# Altium footprint library MiscFootprints.PcbLib: 4 footprints
Each footprint in its own frame and in the unit in brackets; x right, y up, seen from the top. Pads: shape width x height; smd on the part's side, far side on the other; paste and mask are expansions set on the pad; w line width, h text height; cw(c..) or ccw(c..) is an arc to the next point about the centre after c.
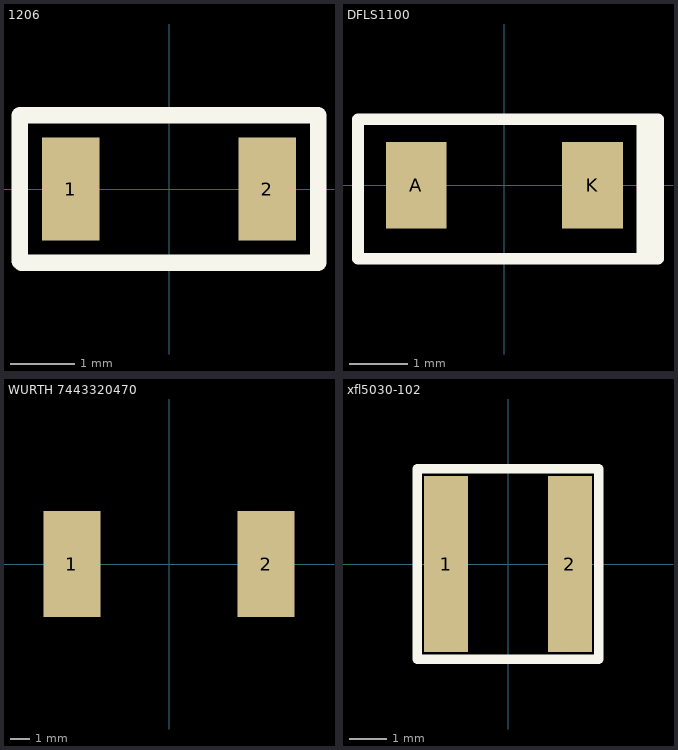
[diagram p0: the footprints below, top view; thin cyan lines are the x and y axes]

## 1206 [mil]
pads (2):
  rect 35x63 smd: 1(-60,0) 2(60,0)
Top Overlay:
  lines w10: -91,45 -91,0 -91,-44 -90,-45 -73,-45 73,-45 90,-45 ; -90,45 -73,45 73,45 90,45 ; 91,-45 91,45

## DFLS1100 [mm]
pads (2):
  rect 1.05x1.5 smd: A(-1.525,0) K(1.525,0)
Top Overlay:
  lines w0.2: -2.53,-1.27 2.657,-1.27 2.657,-0.667 2.657,0.54 2.657,1.143 -2.53,1.143 -2.53,0 -2.53,-1.27
  lines w0.254: 2.413,-1.143 2.413,1.016 ; 2.54,-1.143 2.54,1.016

## WURTH 7443320470 [mm]
pads (2):
  rect 2.9x5.4 smd: 1(-4.95,0) 2(4.95,0)
3D body: height 9.5, standoff 0, extent -6.477,-6.477 6.477,6.477

## xfl5030-102 [mil]
pads (2):
  rect 46x185 smd: 1(-65,0) 2(65,0)
Top Overlay:
  lines w10: -95.5,-100 95.5,-100 95.5,100 -95.5,100 -95.5,0 -95.5,-100
3D body: height 122, standoff 0, extent -115,-115 115,115